# Altium schematic symbol library LM2842.SchLib: 1 symbol
Pins are listed as number, name and electrical type; pins without a type are passive.

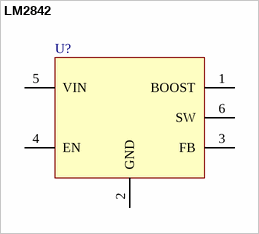
[diagram p0: symbol LM2842]

## LM2842
designator U?
pins: 1 BOOST, 2 GND, 3 FB, 4 EN, 5 VIN, 6 SW